# Altium footprint library StreamDeck-V0.PcbLib: 25 footprints (part 1 of 2)
Each footprint in its own frame and in the unit in brackets; x right, y up, seen from the top. Pads: shape width x height; smd on the part's side, far side on the other; paste and mask are expansions set on the pad; w line width, h text height; cw(c..) or ccw(c..) is an arc to the next point about the centre after c.
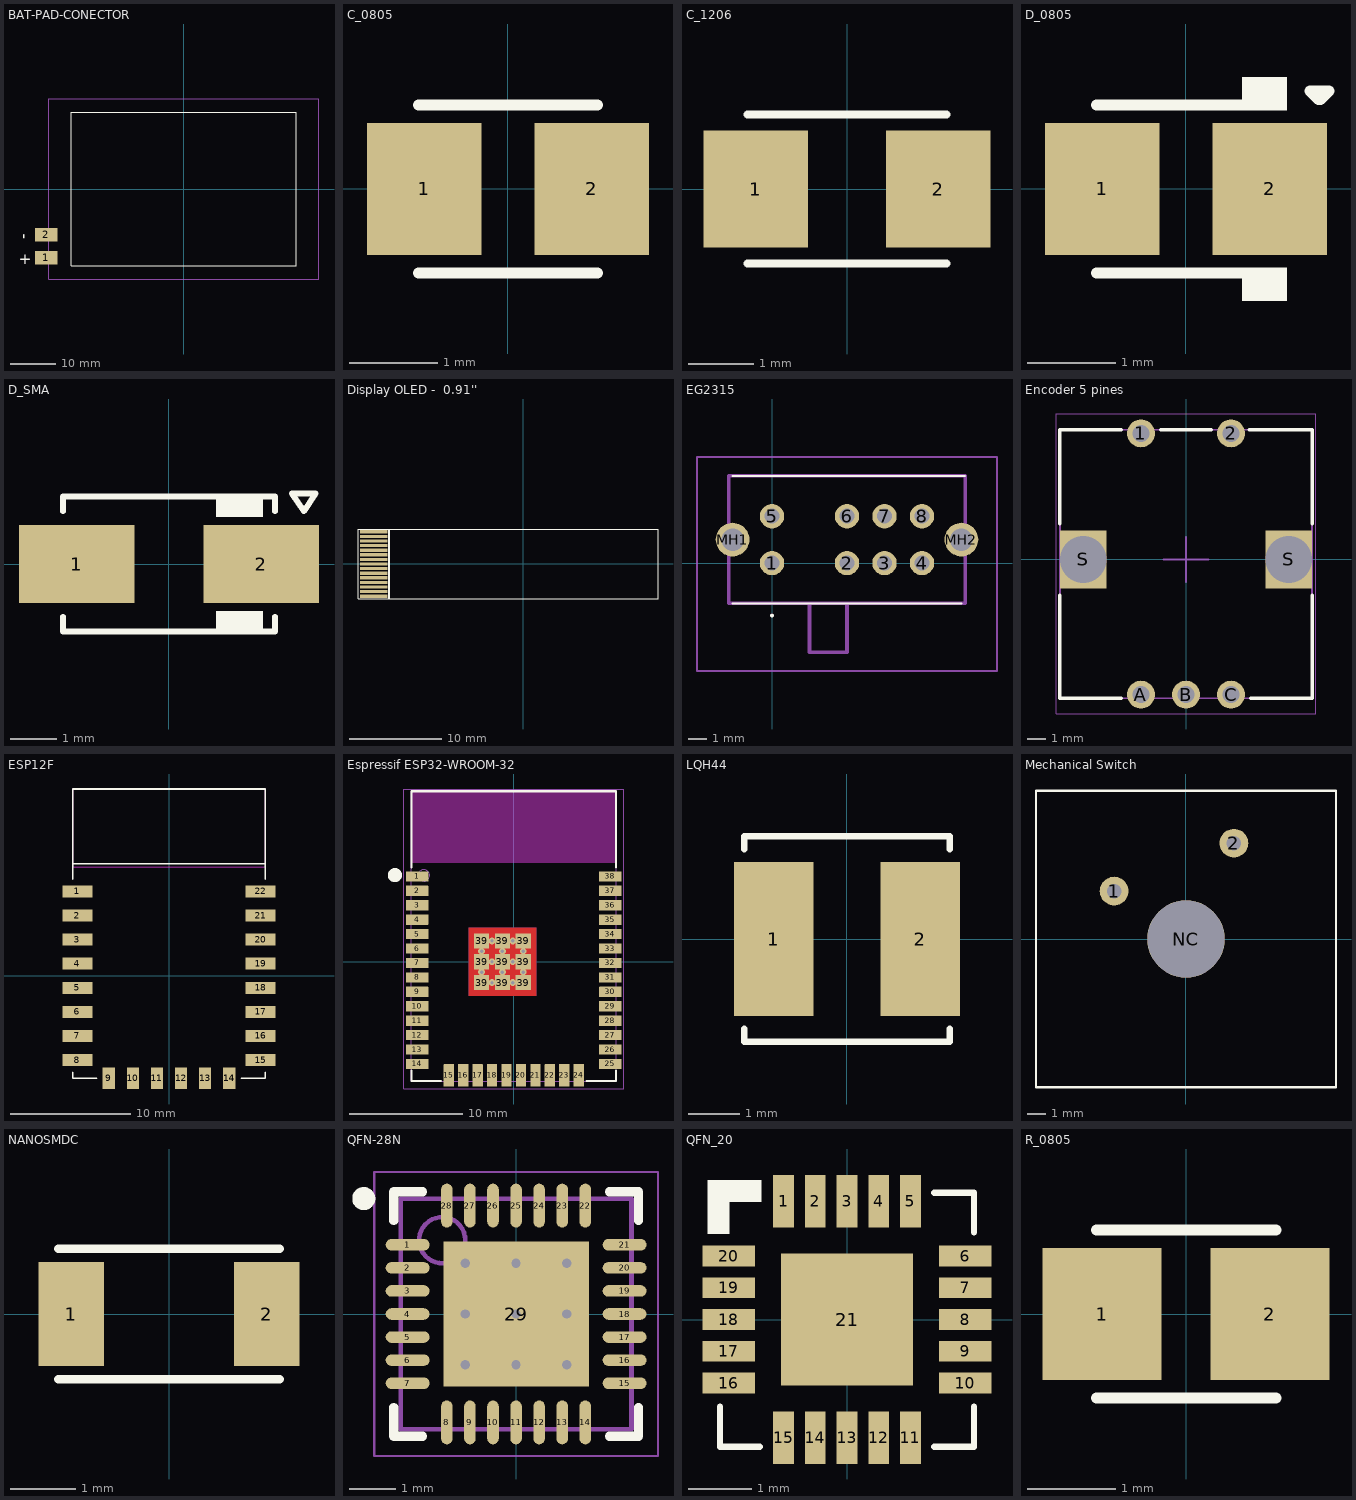
[diagram p0: the footprints below, top view; thin cyan lines are the x and y axes]

## BAT-PAD-CONECTOR [mm]
pads (2):
  rect 5x3 all layers, no hole: 1(-30.48,-15.24) 2(-30.48,-10.16)
Top Overlay:
  lines w0.127: -25,-17 25,-17 25,17 -25,17 -25,-17
  text "+" at -36.576,-16.679 h2.54
  text "-" at -34.544,-11.176 h2.54
Mechanical 15:
  lines w0.127: -30,-20 30,-20 30,20 -30,20 -30,-20
3D body "Bateria LiPo 3.7V.STEP": height 5.46, standoff -0.54, extent -25.36,-17.228 27.74,17.228

## C_0805 [mm] "Chip Capacitor, 2-Leads, Body 2.00x1.25mm"
height 1.1
pads (2):
  rect 1.3x1.5 smd: 1(-0.95,0) 2(0.95,0)
Top Overlay:
  lines w0.127: -1.016,-0.953 1.016,-0.953 ; -1.016,0.953 1.016,0.953
3D body "SW3dPS-0805 SMD Capacitor.STEP": height 0.78, standoff 0, extent -1,-0.625 1,0.625

## C_1206 [mm]
pads (2):
  rect 1.6x1.8 smd: 1(-1.4,0) 2(1.4,0)
Top Overlay:
  lines w0.127: -1.524,-1.143 1.524,-1.143 ; -1.524,1.143 1.524,1.143
3D body "SW3dPS-1206 SMD Capacitor.STEP": height 1, standoff 0, extent -1.6,-0.8 1.6,0.8

## D_0805 [mm]
pads (2):
  rect 1.3x1.5 smd: 1(-0.95,0) 2(0.95,0)
Top Overlay:
  rectangle: 0.635,0.889 1.143,1.27
  rectangle: 0.635,-1.27 1.143,-0.889
  lines w0.127: -1.016,-0.953 1.016,-0.953 ; -1.016,0.953 1.016,0.953 ; 1.405,1.111 1.5,1.016 1.524,1.016 1.619,1.111 1.405,1.111
3D body "User Library-User Library-led_0805 YEL.STEP": height 1.12, standoff -0.02, extent -1.01,-0.663 1.01,0.625

## D_SMA [mm]
height 2.4
pads (2):
  rect 2.5x1.7 smd: 1(-2,0) 2(2,0)
Top Overlay:
  rectangle: 1.016,1.016 2.032,1.524
  rectangle: 1.016,-1.524 2.032,-1.016
  lines w0.127: -2.3,-1.143 -2.3,-1.46 2.3,-1.46 2.3,-1.143 ; -2.3,1.143 -2.3,1.46 2.3,1.46 2.3,1.143 ; 2.667,1.524 3.175,1.524 2.921,1.143 2.667,1.524
3D body "User Library-DO-214AC(SMA).STEP": height 2.39, standoff 0.11, extent -2.743,-1.397 2.743,1.397

## Display OLED -  0.91'' [mm]
pads (15):
  rect 3x0.35 all layers, no hole mask+0: 1(-16.25,-3.5) 2(-16.25,-3) 3(-16.25,-2.5) 4(-16.25,-2) 5(-16.25,-1.5) 6(-16.25,-1) 7(-16.25,-0.5) 8(-16.25,0) 9(-16.25,0.5) 10(-16.25,1) 11(-16.25,1.5) 12(-16.25,2) 13(-16.25,2.5) 14(-16.25,3) 15(-16.25,3.5)
Top Overlay:
  lines w0.127: -17.94,-3.75 -17.94,3.75 -14.5,3.75 -14.5,-3.75 -17.94,-3.75 ; -14.625,-3.75 14.625,-3.75 14.625,3.75 -14.625,3.75 -14.625,-3.75
3D body "ER-OLED0.91-3.STEP": height 4.81, standoff -0.07, extent -20.5,-6.75 12.391,5.1

## EG2315 [mm]
pads (10):
  round 1.3 hole 0.8: 1(0,0) 2(4,0) 3(6,0) 4(8,0) 5(0,2.5) 6(4,2.5) 7(6,2.5) 8(8,2.5)
  round 1.8 hole 1.2: MH1(-2.1,1.25) MH2(10.1,1.25)
Top Overlay:
  lines w0.1: -2.1,-2.15 10.1,-2.15 ; -2.1,4.65 10.3,4.65 ; 0,-2.85 ccw(c0,-2.8) 0,-2.75 ccw(c0,-2.8) 0,-2.85
Mechanical 15:
  lines w0.2: 2,-2.15 2,-3.75 2,-4.75 4,-4.75 4,-2.15 ; -2.3,-2.15 -2.3,4.65 10.3,4.65 10.3,-2.15 -2.3,-2.15
Mechanical 20:
  lines w0.1: -4,-5.75 -4,5.65 12,5.65 12,-5.75 -4,-5.75
3D body "EG2315.stp": height 5, standoff -2.8, extent -2.3,-5.75 10.3,4.55

## Encoder 5 pines [mm] "Rotary Encoder Mechanical 12 Quadrature (Incremental) Vertical, 12.5x13.4mm Body"
height 22
pads (7):
  round 1.55 hole 0.95: 1(-2.5,7) 2(2.5,7) A(-2.5,-7.5) B(0,-7.5) C(2.5,-7.5)
  rect 2.6x3.2 hole 2.6 square: S(-5.7,0) S(5.7,0)
Top Overlay:
  lines w0.2: -7,-2 -7,-7.7 -3.6,-7.7 ; -7,2 -7,7.2 -3.6,7.2 ; -1.4,7.2 1.4,7.2 ; 3.5,7.2 7,7.2 ; 7,-2 7,-7.7 ; 7,2 7,7.2 ; 3.6,-7.7 3.6,-7.7 ; 3.6,-7.7 7,-7.7 ; 7,-7.7 7,-7.7 ; 7,7.2 7,7.2
Mechanical 13:
  lines w0.1: -7,-7.7 7,-7.7 7,7.2 -7,7.2 -7,-7.7
Mechanical 15:
  lines w0.05: -7.2,-8.575 -7.2,8.075 7.2,8.075 7.2,-8.575 -7.2,-8.575
  lines w0.1: -1.25,0 0,0 ; 0,-1.25 0,0 ; 0,1.25 0,0 ; 1.25,0 0,0
3D body "Bourns - PEC11R-4X15F-SyyyX v2.step": height 22.1, standoff -3.6, extent -7,-7.7 7,7.2

## ESP12F [mm]
pads (23):
  rect 2.5x1 smd: 1(-7.6,7) 2(-7.6,5) 3(-7.6,3) 4(-7.6,1) 5(-7.6,-1) 6(-7.6,-3) 7(-7.6,-5) 8(-7.6,-7) 15(7.6,-7) 16(7.6,-5) 17(7.6,-3) 18(7.6,-1) 19(7.6,1) 20(7.6,3) 21(7.6,5) 22(7.6,7)
  rect 1x1.8 smd: 9(-5,-8.5) 10(-3,-8.5) 11(-1,-8.5) 12(1,-8.5) 13(3,-8.5) 14(5,-8.5) 14(5,-8.5)
Top Overlay:
  lines w0.127: -8,-8 -8,-8.5 -6,-8.5 ; -8,8 -8,15.5 8,15.5 8,8 ; -8,9.3 8,9.3 ; 6,-8.5 8,-8.5 8,-8
Keep-Out Layer:
  lines w0.127: -8,9 -8,15.5 8,15.5 8,9 -8,9
3D body "User Library-ESP8266-12E.STEP": height 3.2, standoff 0.2, extent -8,-8.465 8,15.915

## Espressif ESP32-WROOM-32 [mm] "39-SMD Module"
height 3.2
pads (47):
  rrect10% 2x0.9 smd paste+0 mask+0.05: 1(-8.5,7.51) 2(-8.5,6.24) 3(-8.5,4.97) 4(-8.5,3.7) 5(-8.5,2.43) 6(-8.5,1.16) 7(-8.5,-0.11) 8(-8.5,-1.38) 9(-8.5,-2.65) 10(-8.5,-3.92) 11(-8.5,-5.19) 12(-8.5,-6.46) 13(-8.5,-7.73) 14(-8.5,-9) 25(8.5,-9) 26(8.5,-7.73) 27(8.5,-6.46) 28(8.5,-5.19) 29(8.5,-3.92) 30(8.5,-2.65)
  rrect10% 0.9x2 smd paste+0 mask+0.05: 15(-5.715,-10) 16(-4.445,-10) 17(-3.175,-10) 18(-1.905,-10) 19(-0.635,-10) 20(0.635,-10) 21(1.905,-10) 22(3.175,-10) 23(4.445,-10) 24(5.715,-10)
  rect 2x0.9 smd paste+0 mask+0.05: 31(8.5,-1.38) 32(8.5,-0.11) 33(8.5,1.16) 34(8.5,2.43) 35(8.5,3.7) 36(8.5,4.97) 37(8.5,6.24) 38(8.5,7.51)
  rect 1.33x1.33 smd paste+0 mask+0.05: 39(-2.835,-1.835) 39(-2.835,0) 39(-2.835,1.835) 39(-1,0) 39(-1,-1.835) 39(-1,1.835) 39(0.835,-1.835) 39(0.835,0) 39(0.835,1.835)
via -1.918,0 diameter 0.6 hole 0.3
via -1.918,1.835 diameter 0.6 hole 0.3
via -0.083,1.835 diameter 0.6 hole 0.3
via -0.083,0 diameter 0.6 hole 0.3
via -1.918,-1.835 diameter 0.6 hole 0.3
via -0.083,-1.835 diameter 0.6 hole 0.3
via -2.835,-0.918 diameter 0.6 hole 0.3
via -2.835,0.917 diameter 0.6 hole 0.3
via -1,-0.918 diameter 0.6 hole 0.3
via -1,0.917 diameter 0.6 hole 0.3
via 0.835,-0.918 diameter 0.6 hole 0.3
via 0.835,0.917 diameter 0.6 hole 0.3
Top Layer:
  rectangle: -4,-3 2,3
Bottom Layer:
  rectangle: -4,-3 2,3
Top Overlay:
  circle w0.75: c-10.465,7.62 r0.25
  lines w0.2: -9,-9.6 -9,-10.5 -6.4,-10.5 ; -9,8.3 -9,15 9,15 9,8.3 ; 6.4,-10.5 9,-10.5 9,-9.6
Keep-Out Layer:
  region: -9,15 9,15 9,8.7 -9,8.7
Mechanical 13:
  circle w0.1: c-7.9,7.6 r0.5
  lines w0.1: -9,-10.5 9,-10.5 9,15 -9,15 -9,-10.5
Mechanical 15:
  lines w0.05: -0.5,0.001 0.5,0.001 ; 0,-0.499 0,0.501 ; -9.7,-11.2 -9.7,15.2 9.7,15.2 9.7,-11.2 -9.7,-11.2
3D body "Espressif - ESP32-WROOM-32.step": height 3.2, standoff 0, extent -9,-10.5 9,15

## LQH44 [mm]
pads (2):
  rect 1.55x3 smd: 1(-1.425,0) 2(1.425,0)
Top Overlay:
  lines w0.127: -2,-1.75 -2,-2 2,-2 2,-1.75 ; -2,1.75 -2,2 2,2 2,1.75
3D body "LQH44PN_P0.stp": height 1.65, standoff 0, extent -2,-1.997 2,1.998

## Mechanical Switch [mil] "Gateron RED pro 3.0"
pads (3):
  round 60 hole 30: 1(-150,100) 2(100,200)
  round 161.42 hole 161.42: NC(0,0)
Top Overlay:
  lines w5: -312.99,-309.06 312.99,-309.06 312.99,309.06 -312.99,309.06 -312.99,-309.06
3D body "Kailh Polia.step": height 403.54, standoff -326.7, extent -307.99,-274.61 306.18,274.61

## NANOSMDC [mm]
pads (2):
  rect 1x1.6 smd: 1(-1.5,0) 2(1.5,0)
Top Overlay:
  lines w0.127: -1.7,-1 1.7,-1 ; -1.7,1 1.7,1
3D body "User Library-FUSER_nanoSMD.STEP": height 1, standoff 0, extent -1.603,-0.8 1.603,0.8

## QFN-28N [mm] "QFN, 28-Leads, Body 5,00x5,00mm, Pitch 0,50mm, Thermal Pad 3,15x3,15mm, IPC Medium Density"
height 0.9
pads (29):
  oval 0.95x0.25 smd: 1(-2.35,1.5) 2(-2.35,1) 3(-2.35,0.5) 4(-2.35,0) 5(-2.35,-0.5) 6(-2.35,-1) 7(-2.35,-1.5) 15(2.35,-1.5) 16(2.35,-1) 17(2.35,-0.5) 18(2.35,0) 19(2.35,0.5) 20(2.35,1) 21(2.35,1.5)
  oval 0.25x0.95 smd: 8(-1.5,-2.35) 9(-1,-2.35) 10(-0.5,-2.35) 11(0,-2.35) 12(0.5,-2.35) 13(1,-2.35) 14(1.5,-2.35) 22(1.5,2.35) 23(1,2.35) 24(0.5,2.35) 25(0,2.35) 26(-0.5,2.35) 27(-1,2.35) 28(-1.5,2.35)
  rect 3.15x3.15 smd: 29(0,0)
via 1.1,-1.1 diameter 0.5 hole 0.2
via 0,-1.1 diameter 0.5 hole 0.2
via -1.1,-1.1 diameter 0.5 hole 0.2
via 1.1,0 diameter 0.5 hole 0.2
via 0,0 diameter 0.5 hole 0.2
via -1.1,0 diameter 0.5 hole 0.2
via 1.1,1.1 diameter 0.5 hole 0.2
via 0,1.1 diameter 0.5 hole 0.2
via -1.1,1.1 diameter 0.5 hole 0.2
Top Overlay:
  circle w0.25: c-3.3,2.5 r0.125
  lines w0.2: -2.65,-2.025 -2.65,-2.65 -2.025,-2.65 ; -2.65,2.025 -2.65,2.65 -2.025,2.65 ; 2.025,-2.65 2.65,-2.65 2.65,-2.025 ; 2.025,2.65 2.65,2.65 2.65,2.025
Mechanical 13:
  circle w0.1: c-1.6,1.6 r0.5
  lines w0.1: -2.5,-2.5 2.5,-2.5 2.5,2.5 -2.5,2.5 -2.5,-2.5
Mechanical 15:
  lines w0.05: -3.075,-3.075 3.075,-3.075 3.075,3.075 -3.075,3.075 -3.075,-3.075
  lines w0.1: -0.5,0 0.5,0 ; 0,-0.5 0,0.5
3D body "QFN-29N.step": height 0.9, standoff 0, extent -2.52,-2.52 2.52,2.52

## QFN_20 [mm]
height 0.8
pads (21):
  rect 0.325x0.825 smd: 1(-1,1.863) 2(-0.5,1.863) 3(0,1.863) 4(0.5,1.863) 5(1,1.863) 11(1,-1.863) 12(0.5,-1.863) 13(0,-1.863) 14(-0.5,-1.863) 15(-1,-1.863)
  rect 0.825x0.325 smd: 6(1.863,1) 7(1.863,0.5) 8(1.863,0) 9(1.863,-0.5) 10(1.863,-1) 16(-1.863,-1) 17(-1.863,-0.5) 18(-1.863,0) 19(-1.863,0.5) 20(-1.863,1)
  rect 2.075x2.075 smd: 21(0,0)
Top Overlay:
  region: -2.2,2.2 -2.2,1.85 -1.35,1.85 -1.35,2.2
  region: -1.85,2.101 -2.2,2.101 -2.2,1.351 -1.85,1.351
  lines w0.102: -2,-1.375 -2,-2 -1.375,-2 ; 1.375,-2 2,-2 2,-1.375 ; 1.375,2 2,2 2,1.375

## R_0805 [mm] "Chip Resistor, 2-Leads, Body 2.00x1.25mm, IPC Low Density"
height 0.65
pads (2):
  rect 1.35x1.5 smd: 1(-0.95,0) 2(0.95,0)
Top Overlay:
  lines w0.127: -1.016,-0.953 1.016,-0.953 ; -1.016,0.953 1.016,0.953
3D body "User Library-CR2012-0805.STEP": height 0.6, standoff 0, extent -1,-0.625 1,0.625